# Altium footprint library Transformers.PcbLib: 17 footprints (part 2 of 2)
Each footprint in its own frame and in the unit in brackets; x right, y up, seen from the top. Pads: shape width x height; smd on the part's side, far side on the other; paste and mask are expansions set on the pad; w line width, h text height; cw(c..) or ccw(c..) is an arc to the next point about the centre after c.
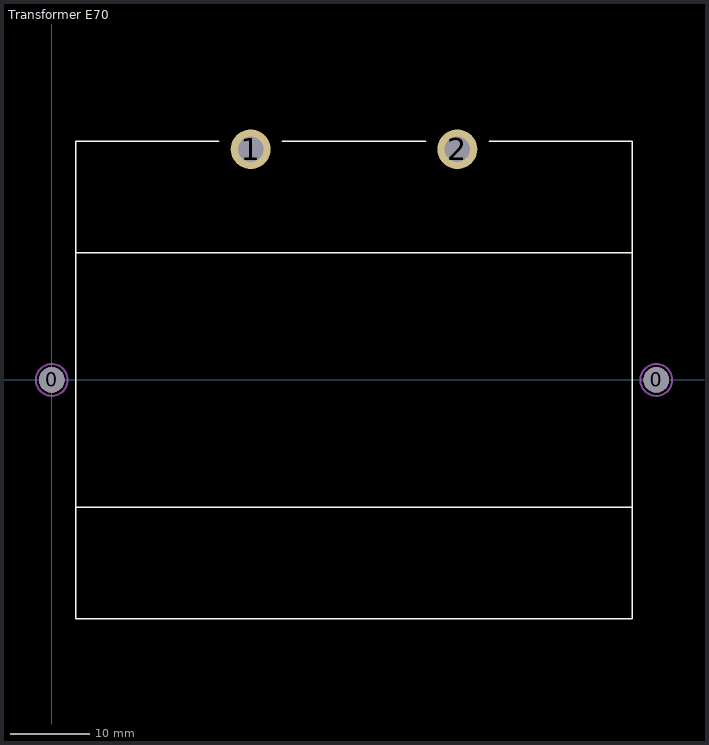
[diagram p1: the footprint, top view; thin cyan lines are the x and y axes]

## Transformer E70 [mm]
pads (4):
  round 3.2 hole 3.2: 0(0,0) 0(76,0)
  round 5 hole 3.2: 1(25,29) 2(51,29)
Top Overlay:
  lines w0.2: 3,-16 73,-16 ; 3,16 73,16 ; 21,30 3,30 3,-30 73,-30 73,30 55,30 ; 29,30 47,30
Top3D:
  circle w0.254: c0,0 r2
  circle w0.254: c76,0 r2
3D body: height 10, standoff -2, extent 49.755,28 52.245,30.495
3D body: height 10, standoff -2, extent 23.755,28 26.245,30.495
3D body: height 56, standoff 10, extent 16.5,-30 59.5,30
3D body "User Library-Male - Female Hexagonal Threaded Standoffs; length 60mm; key 5mm; M3x10mm and M3x6mm.STEP": height 60, standoff -6, extent -2.5,-2.887 2.5,2.887
3D body "User Library-Male - Female Hexagonal Threaded Standoffs; length 60mm; key 5mm; M3x10mm and M3x6mm.STEP": height 60, standoff -6, extent 73.5,-2.887 78.5,2.887
3D body: height 70, standoff 65, extent -4.501,-15.001 80.501,14
3D body: height 70, standoff 65, extent -1.999,-2 1.999,1.999
3D body: height 70, standoff 65, extent 74.001,-2 77.999,1.999
3D body "SW3dPS-allen m3XX20 v2.STEP": height 73.51, standoff 50, extent -2.75,-2.75 2.75,2.75
3D body "SW3dPS-allen m3XX20 v2.STEP": height 73.51, standoff 50, extent 73.25,-2.75 78.75,2.75
3D body "User Library-e65-27.STEP": height 65, standoff 32.2, extent 5.5,-13.7 70.5,13.7
3D body "User Library-e65-27.STEP": height 32.8, standoff 0, extent 5.5,-13.7 70.5,13.7